# EAGLE library part DMN2004DMK_DUAL_N-CHANNEL_MOSFET_ARRAY (library ultravolt_daughterboard)
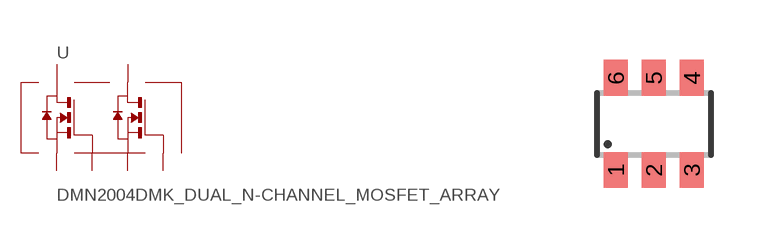
[diagram p1: symbol with the pads of SOT23-6; footprint SOT23-6]

Designator prefix -

## DMN2004DMK_DUAL_N-CHANNEL_MOSFET_ARRAY  [SOT23-6]
1  S1  pas
2  G1  pas
3  D1  pas
4  S  pas
5  G  pas
6  D  pas

## Footprint SOT23-6 (pad centres in mm)
smd 0.6 x 0.9: 1 -0.95,-1.15; 2 0,-1.15; 3 0.95,-1.15; 4 0.95,1.15; 5 0,1.15; 6 -0.95,1.15